# Altium footprint library CONNECTORS.PcbLib: 2 footprints
Each footprint in its own frame and in the unit in brackets; x right, y up, seen from the top. Pads: shape width x height; smd on the part's side, far side on the other; paste and mask are expansions set on the pad; w line width, h text height; cw(c..) or ccw(c..) is an arc to the next point about the centre after c.
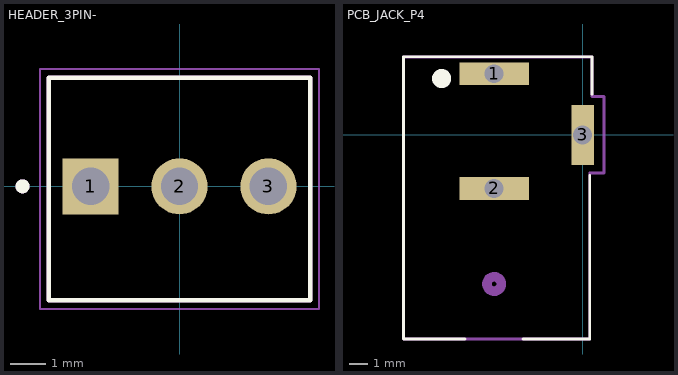
[diagram p0: the footprints below, top view; thin cyan lines are the x and y axes]

## HEADER_3PIN- [mm]
pads (3):
  rect 1.605x1.605 hole 1.07: 1(-2.54,0)
  round 1.605 hole 1.07: 2(0,0) 3(2.54,0)
Top Overlay:
  circle w0.2: c-4.485,0 r0.1
  lines w0.127: -3.735,-3.25 -3.735,3.1 3.735,3.1 3.735,-3.25 -3.735,-3.25
Mechanical 13:
  circle w0.2: c-4.485,0 r0.1
  lines w0.127: -3.735,-3.25 -3.735,3.1 3.735,3.1 3.735,-3.25 -3.735,-3.25
Mechanical 15:
  lines w0.05: -3.985,-3.5 3.985,-3.5 3.985,3.35 -3.985,3.35 -3.985,-3.5
3D body "22-23-2031.stp": height 10.73, standoff -3.49, extent -3.81,-3.099 3.81,3.251

## PCB_JACK_P4 [mm]
pads (3):
  rect 3.7x1.2 hole 1 square: 1(-4.7,3.246) 2(-4.7,-2.85)
  rect 1.2x3.2 hole 1 square: 3(0,0)
Top Overlay:
  circle w0.508: c-7.494,2.992 r0.254
  lines w0.152: -6.242,-10.851 -9.526,-10.851 -9.526,4.15 0.507,4.15 0.507,2.159 ; -3.158,-10.85 0.38,-10.85 0.38,-2.159
Mechanical 13:
  circle w0.508: c-4.7,-7.926 r0.381
Mechanical 15:
  lines w0.152: -9.526,-10.851 -9.526,4.135 0.507,4.135 0.507,2.032 1.143,2.032 1.143,-2.032 0.38,-2.032 0.38,-10.851 -9.526,-10.851
3D body "jack_p4.step": height 11.05, standoff -3.85, extent -9.2,-10.6 0.2,3.9
3D body: height 0.25, standoff 0, extent -4.7,3.2 -4.446,3.454
3D body: height 0.25, standoff 0, extent -4.7,3.75 -4.446,4.004
3D body: height 0.25, standoff 0, extent -4.7,-9.45 -4.446,-9.196